# EAGLE library part 1457 (library Pololu)
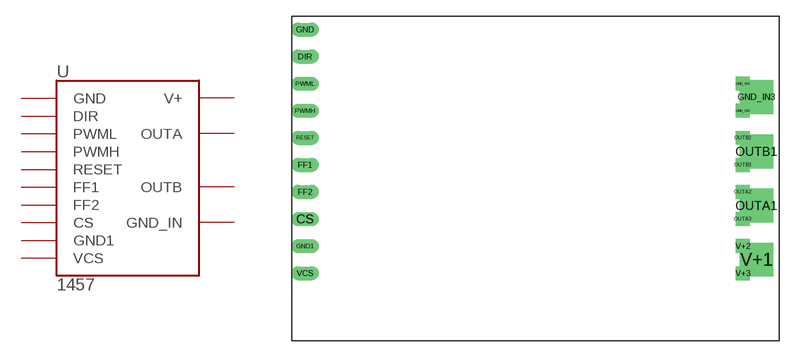
[diagram p1: symbol with the pads of 1457; footprint 1457]

Designator prefix -

## 1457  [1457]
CS  CS  out
DIR  DIR  in
FF1  FF1  out
FF2  FF2  out
GND  GND  in
GND1  GND1  in
GND_IN1  GND_IN
GND_IN2  GND_IN
GND_IN3  GND_IN
OUTA1  OUTA
OUTA2  OUTA
OUTA3  OUTA
OUTB1  OUTB
OUTB2  OUTB
OUTB3  OUTB
PWMH  PWMH  in
PWML  PWML  in
RESET  RESET  out
V+1  V+
V+2  V+
V+3  V+
VCS  VCS  out

## Footprint 1457 (pad centres in mm)
drill 0.8 long: CS 1.27,11.43; DIR 1.27,26.67; FF1 1.27,16.51; FF2 1.27,13.97; GND 1.27,29.21; GND1 1.27,8.89; PWMH 1.27,21.59; PWML 1.27,24.13; RESET 1.27,19.05; VCS 1.27,6.35
drill 0.8 square: GND_IN1 42.291,24.13; GND_IN2 42.291,21.59; OUTA2 42.291,13.97; OUTA3 42.291,11.43; OUTB2 42.291,19.05; OUTB3 42.291,16.51; V+2 42.291,8.89; V+3 42.291,6.35
drill 2.159 square: GND_IN3 43.561,22.86; OUTA1 43.561,12.7; OUTB1 43.561,17.78; V+1 43.561,7.62